# Altium footprint library Bus_Transceiver.PcbLib: 1 footprints
Each footprint in its own frame and in the unit in brackets; x right, y up, seen from the top. Pads: shape width x height; smd on the part's side, far side on the other; paste and mask are expansions set on the pad; w line width, h text height; cw(c..) or ccw(c..) is an arc to the next point about the centre after c.
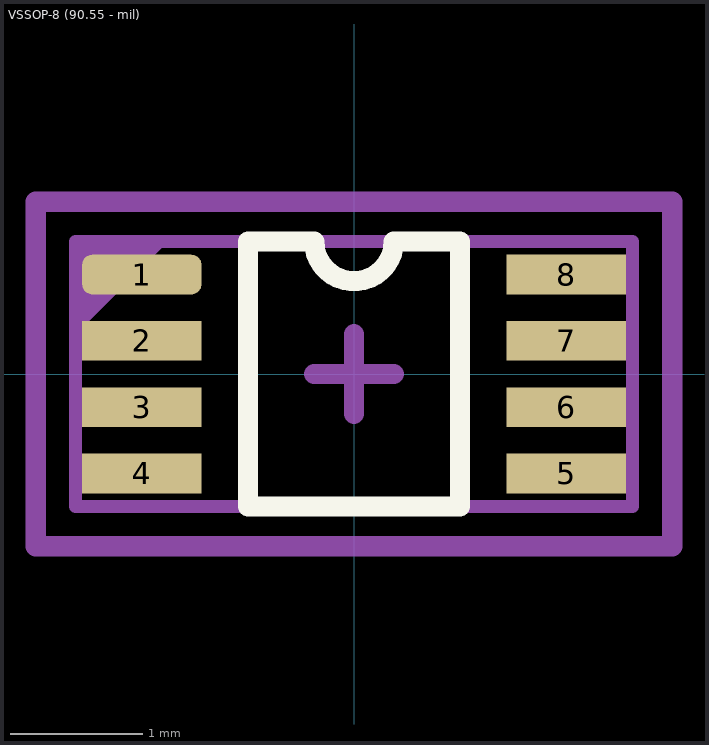
[diagram p0: the footprint, top view; thin cyan lines are the x and y axes]

## VSSOP-8 (90.55 - mil) [mm]
pads (8):
  rrect50% 0.9x0.3 smd mask+0.05: 1(-1.6,0.75)
  rect 0.9x0.3 smd mask+0.05: 2(-1.6,0.25) 3(-1.6,-0.25) 4(-1.6,-0.75) 5(1.6,-0.75) 6(1.6,-0.25) 7(1.6,0.25) 8(1.6,0.75)
Top Overlay:
  lines w0.153: -0.8,-1 -0.8,1 -0.3,1 ccw(c0,1) 0.3,1 0.8,1 0.8,-1 -0.8,-1
Top Assembly:
  region: -2.1,1 -1.4,1 -2.1,0.3
  lines w0.1: -2.1,-1 2.1,-1 2.1,1 -2.1,1 -2.1,-1
  text "'.Designator'" at -4.532,-0.333 h0.8
Top Courtyard:
  lines w0.153: -0.3,0 0.3,0 ; 0,-0.3 0,0.3 ; -2.4,-1.3 -2.4,1.3 2.4,1.3 2.4,-1.3 -2.4,-1.3
3D body "step_temp.STEP": height 1, standoff 0, extent -1.55,-1 1.55,1